# EAGLE library part 743-8_S (library resistor-array)
CTS 743 Series 8 Terminations, 4 Resistors
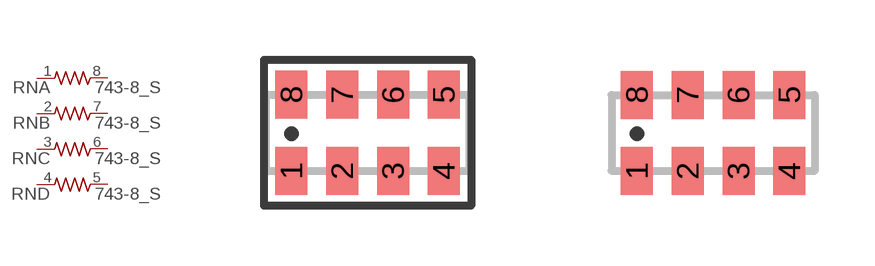
[diagram p12: symbol with the pads of 743-8; footprints 743-8, 743-8NS]

Designator prefix RN; gates A=R1NV B=R1NV C=R1NV D=R1NV

## 743-8_S  [743-8]
1  A:1  pas
2  B:1  pas
3  C:1  pas
4  D:1  pas
5  D:2  pas
6  C:2  pas
7  B:2  pas
8  A:2  pas

## 743-8_SNS  [743-8NS]
Pads as for 743-8

## Footprint 743-8 (pad centres in mm)
CTS 744 Series 8 Terminations, 4 Resistors
smd 0.8 x 1.2: 1 -1.905,-0.953; 2 -0.635,-0.953; 3 0.635,-0.953; 4 1.905,-0.953; 5 1.905,0.953; 6 0.635,0.953; 7 -0.635,0.953; 8 -1.905,0.953

## Footprint 743-8NS (pad centres in mm)
CTS 744 Series 8 Terminations, 4 Resistors
smd 0.8 x 1.2: 1 -1.905,-0.953; 2 -0.635,-0.953; 3 0.635,-0.953; 4 1.905,-0.953; 5 1.905,0.953; 6 0.635,0.953; 7 -0.635,0.953; 8 -1.905,0.953